# Altium footprint library WB-AV-4501-BMS.PcbLib: 2 footprints
Each footprint in its own frame and in the unit in brackets; x right, y up, seen from the top. Pads: shape width x height; smd on the part's side, far side on the other; paste and mask are expansions set on the pad; w line width, h text height; cw(c..) or ccw(c..) is an arc to the next point about the centre after c.
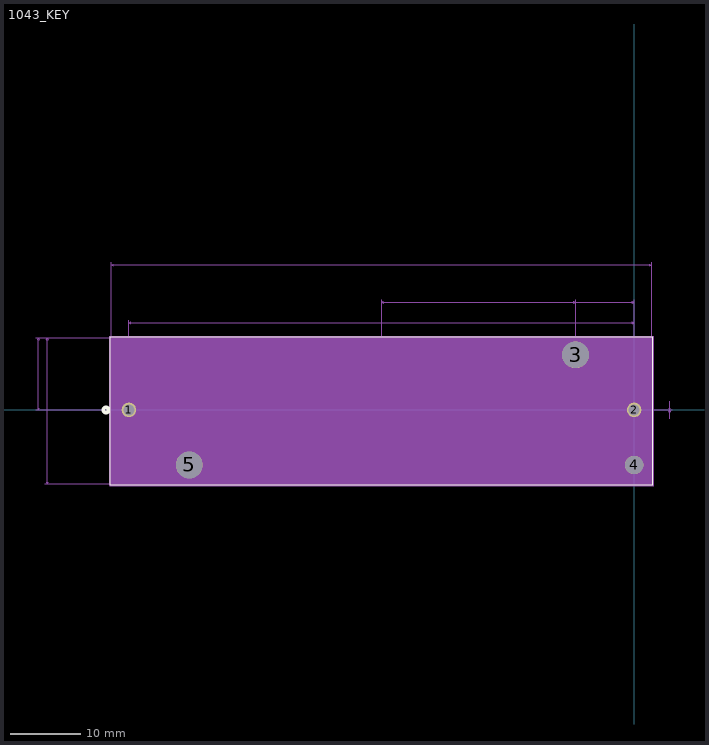
[diagram p0: the footprints below, top view; thin cyan lines are the x and y axes]

## 1043_KEY [mil]
pads (5):
  round 82 hole 62 mask+0: 1(-2845,0) 2(0,0)
  round 150 hole 150 unplated: 3(-330,310) 5(-2505,-310)
  round 104 hole 104 unplated: 4(0,-310)
Top Overlay:
  circle w20: c-2974.5,0 r15
  lines w6: -2949.5,-421.5 104.5,-421.5 104.5,411.5 -2949.5,411.5 -2949.5,-421.5
Bottom Overlay:
  circle w20: c-2974.5,0 r15
Mechanical 7:
  lines w1: -3369.5,0 -1422.5,0 ; -3369.5,406.5 -2944.5,406.5 ; -3319.5,-416.5 -2944.5,-416.5 ; -3319.5,406.5 -2944.5,406.5 ; -2944.5,831.5 -2944.5,406.5 ; -2845,506.5 -2845,0 ; -330,310 -330,621.5 ; 0,-310 0,621.5 ; 0,0 0,506.5 ; 99.5,406.5 99.5,831.5 ; 199.5,-50 199.5,0 ; 199.5,50 199.5,0 ; -3354.5,0 -3354.5,406.5 ; -3354.5,0 -3359.5,10 -3349.5,10 -3354.5,0 ; -3354.5,406.5 -3359.5,396.5 -3349.5,396.5 -3354.5,406.5 ; -3304.5,-416.5 -3304.5,406.5 ; -3304.5,-416.5 -3309.5,-406.5 -3299.5,-406.5 -3304.5,-416.5 ; -3304.5,406.5 -3309.5,396.5 -3299.5,396.5 -3304.5,406.5 ; -2944.5,816.5 99.5,816.5 ; -2944.5,816.5 -2934.5,821.5 -2934.5,811.5 -2944.5,816.5 ; -2845,0 214.5,0 -2845,0 ; -2845,491.5 0,491.5 ; -2845,491.5 -2835,496.5 -2835,486.5 -2845,491.5 ; -1422.5,0 -1422.5,621.5 -1422.5,0 ; -1422.5,606.5 -330,606.5 ; -1422.5,606.5 -1412.5,611.5 ; -1422.5,606.5 -1412.5,601.5 ; -1422.5,606.5 0,606.5 ; -1422.5,606.5 -1412.5,611.5 ; -1422.5,606.5 -1412.5,601.5 ; -1412.5,601.5 -1412.5,611.5 ; -1412.5,601.5 -1412.5,611.5 ; -330,606.5 -340,611.5 -340,601.5 -330,606.5 ; 0,491.5 -10,496.5 -10,486.5 0,491.5 ; 0,606.5 -10,611.5 -10,601.5 0,606.5 ; 99.5,816.5 89.5,821.5 89.5,811.5 99.5,816.5 ; 199.5,0 194.5,10 204.5,10 199.5,0 ; 199.5,0 194.5,-10 204.5,-10 199.5,0
  text "Default Padstyle: EX82Y82D62P" at -1785,-576.5 h50
  text "1st Mtg Padstyle: RX110Y80D50P" at -1797.5,-651.5 h50
  text "2nd Mtg Padstyle: EX70Y70D70P" at -1785,-726.5 h50
  text "3rd Mtg Padstyle: EX70Y70D70P" at -1785,-801.5 h50
  text "Left Mtg Padstyle: EX150Y150D150P" at -1835,-876.5 h50
  text "Right Mtg Padstyle: EX104Y104D104P" at -1847.5,-951.5 h50
  text "Alt Padstyle 1: OX60Y90D30P" at -1760,-1026.5 h50
  text "Alt Padstyle 2: OX90Y60D30P" at -1760,-1101.5 h50
  text "2.845in/72.263mm" at -3656.25,511.5 h25
  text "3.044in/77.318mm" at -1522.5,836.5 h25
  text "0in/0mm" at 219.5,-12.5 h25
  text "0.406in/10.325mm" at -3574.5,190.75 h25
  text "0.823in/20.904mm" at -3524.5,-17.5 h25
  text "1.092in/27.75mm" at -970,626.5 h25
  text "1.422in/36.132mm" at -811.25,626.5 h25
Mechanical 13:
  circle w20: c-2845,75 r15
  lines w1: -2944.5,-416.5 99.5,-416.5 99.5,406.5 -2944.5,406.5 -2944.5,-416.5
Mechanical 15:
  region: 109.5,416.5 -2954.5,416.5 -2954.5,-426.5 109.5,-426.5
  lines w6: -2954.5,-426.5 -2954.5,416.5 109.5,416.5 109.5,-426.5 -2954.5,-426.5
3D body: height 10, standoff 0, extent 0,0 10,10
3D body "1043--3DModel-STEP-56544.STEP": height 585, standoff -140, extent -2946.99,-406.49 87,406.5

## PCBComponent_1 [mil]